# EAGLE library part PIC18F6680 (library microchip-dspic)
PIC18F Flash Microcontroller with CAN port
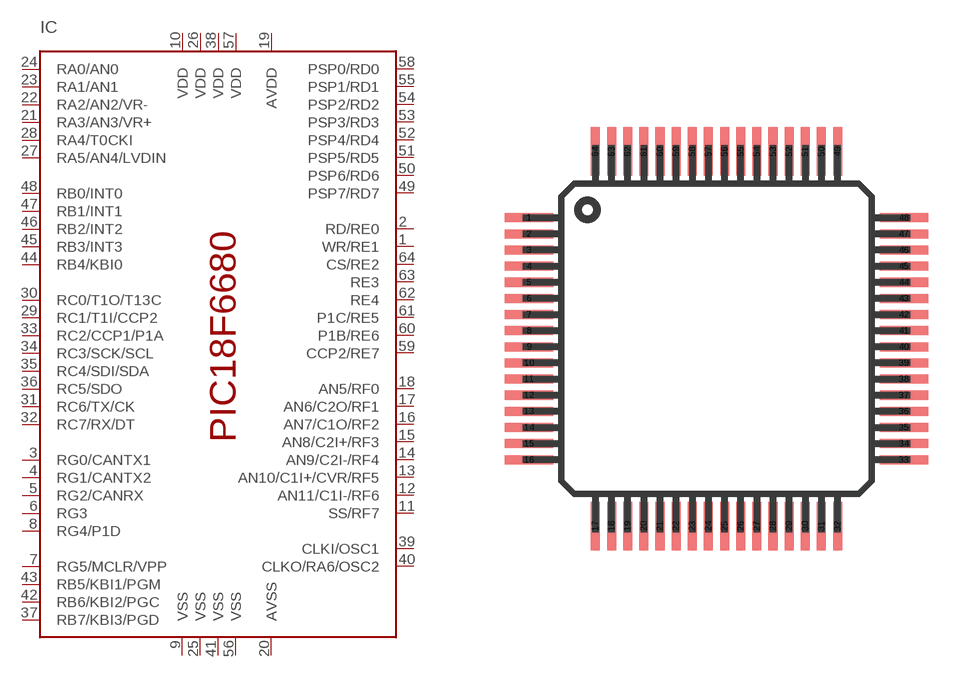
[diagram p0: symbol with the pads of TQFP64-10X10; footprint TQFP64-10X10]

Designator prefix IC

## PIC18F6680TQ-64  [TQFP64-10X10]
1  WR/RE1
2  RD/RE0
3  RG0/CANTX1
4  RG1/CANTX2
5  RG2/CANRX
6  RG3
7  RG5/MCLR/VPP
8  RG4/P1D
9  VSS  pwr
10  VDD  pwr
11  SS/RF7
12  AN11/C1I-/RF6
13  AN10/C1I+/CVR/RF5
14  AN9/C2I-/RF4
15  AN8/C2I+/RF3
16  AN7/C1O/RF2
17  AN6/C2O/RF1
18  AN5/RF0
19  AVDD  pwr
20  AVSS  pwr
21  RA3/AN3/VR+
22  RA2/AN2/VR-
23  RA1/AN1
24  RA0/AN0
25  VSS  pwr
26  VDD  pwr
27  RA5/AN4/LVDIN
28  RA4/T0CKI
29  RC1/T1I/CCP2
30  RC0/T1O/T13C
31  RC6/TX/CK
32  RC7/RX/DT
33  RC2/CCP1/P1A
34  RC3/SCK/SCL
35  RC4/SDI/SDA
36  RC5/SDO
37  RB7/KBI3/PGD
38  VDD  pwr
39  CLKI/OSC1  in
40  CLKO/RA6/OSC2  out
41  VSS  pwr
42  RB6/KBI2/PGC
43  RB5/KBI1/PGM
44  RB4/KBI0
45  RB3/INT3
46  RB2/INT2
47  RB1/INT1
48  RB0/INT0
49  PSP7/RD7
50  PSP6/RD6
51  PSP5/RD5
52  PSP4/RD4
53  PSP3/RD3
54  PSP2/RD2
55  PSP1/RD1
56  VSS  pwr
57  VDD  pwr
58  PSP0/RD0
59  CCP2/RE7
60  P1B/RE6
61  P1C/RE5
62  RE4
63  RE3
64  CS/RE2

## Footprint TQFP64-10X10 (pad centres in mm)
Thin Quad Flat Pack package type TQ
smd 1.5 x 0.28: 1 -5.8,3.75; 2 -5.8,3.25; 3 -5.8,2.75; 4 -5.8,2.25; 5 -5.8,1.75; 6 -5.8,1.25; 7 -5.8,0.75; 8 -5.8,0.25; 9 -5.8,-0.25; 10 -5.8,-0.75; 11 -5.8,-1.25; 12 -5.8,-1.75; 13 -5.8,-2.25; 14 -5.8,-2.75; 15 -5.8,-3.25; 16 -5.8,-3.75; 33 5.8,-3.75; 34 5.8,-3.25; 35 5.8,-2.75; 36 5.8,-2.25; 37 5.8,-1.75; 38 5.8,-1.25; 39 5.8,-0.75; 40 5.8,-0.25; 41 5.8,0.25; 42 5.8,0.75; 43 5.8,1.25; 44 5.8,1.75; 45 5.8,2.25; 46 5.8,2.75; 47 5.8,3.25; 48 5.8,3.75
smd 0.28 x 1.5: 17 -3.75,-5.8; 18 -3.25,-5.8; 19 -2.75,-5.8; 20 -2.25,-5.8; 21 -1.75,-5.8; 22 -1.25,-5.8; 23 -0.75,-5.8; 24 -0.25,-5.8; 25 0.25,-5.8; 26 0.75,-5.8; 27 1.25,-5.8; 28 1.75,-5.8; 29 2.25,-5.8; 30 2.75,-5.8; 31 3.25,-5.8; 32 3.75,-5.8; 49 3.75,5.8; 50 3.25,5.8; 51 2.75,5.8; 52 2.25,5.8; 53 1.75,5.8; 54 1.25,5.8; 55 0.75,5.8; 56 0.25,5.8; 57 -0.25,5.8; 58 -0.75,5.8; 59 -1.25,5.8; 60 -1.75,5.8; 61 -2.25,5.8; 62 -2.75,5.8; 63 -3.25,5.8; 64 -3.75,5.8